# Altium footprint library ChargeContrlConnectors.PcbLib: 3 footprints
Each footprint in its own frame and in the unit in brackets; x right, y up, seen from the top. Pads: shape width x height; smd on the part's side, far side on the other; paste and mask are expansions set on the pad; w line width, h text height; cw(c..) or ccw(c..) is an arc to the next point about the centre after c.
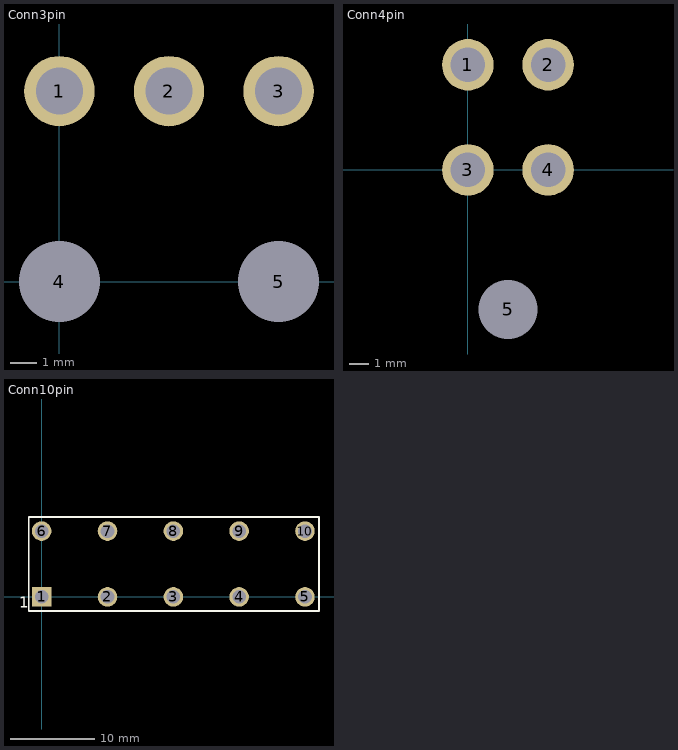
[diagram p0: the footprints below, top view; thin cyan lines are the x and y axes]

## Conn3pin [mm]
pads (5):
  round 2.7 hole 1.8: 1(0,7.3) 2(4.2,7.3) 3(8.4,7.3)
  round 2.3 hole 3.1: 4(0,0) 5(8.4,0)
3D body "039303035.stp": height 6.81, standoff -3.89, extent -2.667,-6.223 11.133,7.827
3D body: height 10.49, standoff -2.79, extent -4.572,5.969 -4.572,5.969

## Conn4pin [mm]
pads (5):
  round 2.7 hole 1.8: 1(0,5.5) 2(4.2,5.5) 3(0,0) 4(4.2,0)
  round 2.3 hole 3.1: 5(2.1,-7.3)
3D body "039300040.stp": height 11.01, standoff -3.99, extent -2.641,-13.97 7.359,5.965
3D body: height 10.49, standoff -2.79, extent -4.572,5.969 -4.572,5.969

## Conn10pin [mm]
pads (10):
  rect 2.3x2.3 hole 1.6: 1(0,0)
  round 2.3 hole 1.6: 2(7.747,0) 3(15.494,0) 4(23.241,0) 5(30.988,0) 6(0,7.747) 7(7.747,7.747) 8(15.494,7.747) 9(23.241,7.747) 10(30.988,7.747)
L26-Silk Screen Top (Multiple PADS layers...):
  lines w0.2: -1.524,-1.651 32.639,-1.651 32.639,9.398 -1.524,9.398 -1.524,-1.651
  text "1" at -2.667,-1.27 h1.27